# EAGLE library part PCA24S08 (library memory-nxp)
I2C Serial EEPROM 1024 × 8-bit CMOS EEPROM with access protection
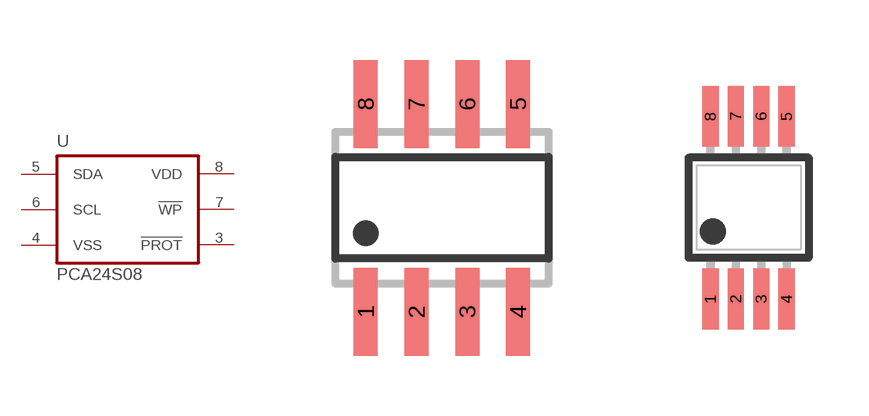
[diagram p0: symbol with the pads of SO08; footprints SO08, TSSOP8-DP]

Designator prefix U

## PCA24S08D  [SO08]
3  !PROT!  in
4  VSS  pwr
5  SDA
6  SCL  in
7  !WP!  in
8  VDD  pwr

## PCA24S08DP  [TSSOP8-DP]
Pads as for SO08

## Footprint SO08 (pad centres in mm)
SMALL OUTLINE INTEGRATED CIRCUIT body 3.9 mm/JEDEC MS-012AA
smd 0.6 x 2.2: 1 -1.905,-2.6; 2 -0.635,-2.6; 3 0.635,-2.6; 4 1.905,-2.6; 5 1.905,2.6; 6 0.635,2.6; 7 -0.635,2.6; 8 -1.905,2.6

## Footprint TSSOP8-DP (pad centres in mm)
Thin Shrink Small Outline Plastic 8 3mm body width, SOT505-1
smd 0.406 x 1.524: 1 -0.953,-2.286; 2 -0.318,-2.286; 3 0.318,-2.286; 4 0.953,-2.286; 5 0.953,2.286; 6 0.318,2.286; 7 -0.318,2.286; 8 -0.953,2.286